# EAGLE library part LINEAR_TECHNOLOGY_LTC6803HG-4#PBF (library Upverter Library)
LT-LTC6803-4-G-44
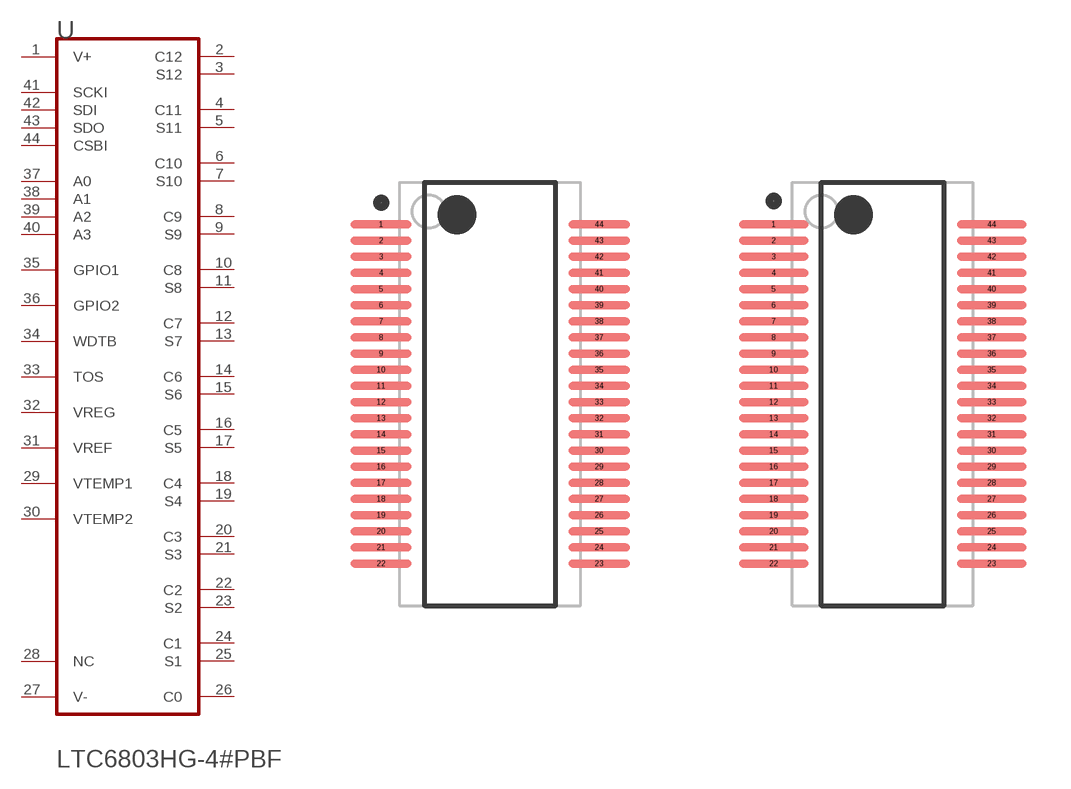
[diagram p0: symbol with the pads of LINEAR_TECHNOLOGY_LTC6803HG-4#PBF_0; footprints LINEAR_TECHNOLOGY_LTC6803HG-4#PBF_0, LINEAR_TECHNOLOGY_LTC6803HG-4#PBF_1]

Designator prefix U

## LINEAR_TECHNOLOGY_LTC6803HG-4#PBFLINEAR_TECHNOLOGY_LTC6803HG-4#PBF_0_0 (Battery_Chemistry: Li-Ion, Supercapacitors, Multi-Chemistry; Component_Link_1_Description: Manufacturer URL; Component_Link_1_URL: http://www.linear.com/; Component_Link_3_Description: Package Specification; Component_Link_3_URL: http://cds.linear.com/docs/en/packaging/SSOP_44_05-08-1754.pdf; Datasheet_Version: Rev. A; MF: Linear Technology; MPN: LTC6803HG-4#PBF; Mounting_Technology: Surface Mount; Number_of_Cells: > 1000 V of stacked Li-Ion cells; Package_Description: 44-Pin Plastic SSOP, Body 12.8 x 5.3 mm, Pitch 0.5 mm; Package_Version: Rev. Ã ̃, 06/2010; Type_of_Charger: Battery Stack Monitor; Vin_MaxV: 60; ciiva_ids: 1416646; datasheet: http://cds.linear.com/docs/en/datasheet/680324fa.pdf; footprint_variant_name_0: Level C; footprint_variant_name_1: Level B; footprint_variant_name_2: Level A; import_ts: 1521854382; imported: yes; imported_from: vault; package: G-44; pin_0_0_40_inside_edge: clock; prefix: U; release_date: 1377764895; rohs: Yes; vault_guid: BA7F31F3-B2E0-4312-B550-1E6C11B00551; vault_revision: 890CB210-B5D1-4A20-8471-0AD6F7E52161)  [LINEAR_TECHNOLOGY_LTC6803HG-4#PBF_0]
1  V+  pwr
2  C12  in
3  S12  hiz
4  C11  in
5  S11  hiz
6  C10  in
7  S10  hiz
8  C9  in
9  S9  hiz
10  C8  in
11  S8  hiz
12  C7  in
13  S7  hiz
14  C6  in
15  S6  hiz
16  C5  in
17  S5  hiz
18  C4  in
19  S4  hiz
20  C3  in
21  S3  hiz
22  C2  in
23  S2  hiz
24  C1  in
25  S1  hiz
26  C0  in
27  V-  pwr
28  NC  pas
29  VTEMP1  in
30  VTEMP2  in
31  VREF  out
32  VREG  pwr
33  TOS  in
34  WDTB  oc
35  GPIO1
36  GPIO2
37  A0  in
38  A1  in
39  A2  in
40  A3  in
41  SCKI  in
42  SDI  in
43  SDO  oc
44  CSBI  in

## LINEAR_TECHNOLOGY_LTC6803HG-4#PBFLINEAR_TECHNOLOGY_LTC6803HG-4#PBF_0_1 (Battery_Chemistry: Li-Ion, Supercapacitors, Multi-Chemistry; Component_Link_1_Description: Manufacturer URL; Component_Link_1_URL: http://www.linear.com/; Component_Link_3_Description: Package Specification; Component_Link_3_URL: http://cds.linear.com/docs/en/packaging/SSOP_44_05-08-1754.pdf; Datasheet_Version: Rev. A; MF: Linear Technology; MPN: LTC6803HG-4#PBF; Mounting_Technology: Surface Mount; Number_of_Cells: > 1000 V of stacked Li-Ion cells; Package_Description: 44-Pin Plastic SSOP, Body 12.8 x 5.3 mm, Pitch 0.5 mm; Package_Version: Rev. Ã ̃, 06/2010; Type_of_Charger: Battery Stack Monitor; Vin_MaxV: 60; ciiva_ids: 1416646; datasheet: http://cds.linear.com/docs/en/datasheet/680324fa.pdf; footprint_variant_name_0: Level C; footprint_variant_name_1: Level B; footprint_variant_name_2: Level A; import_ts: 1521854382; imported: yes; imported_from: vault; package: G-44; pin_0_0_40_inside_edge: clock; prefix: U; release_date: 1377764895; rohs: Yes; vault_guid: BA7F31F3-B2E0-4312-B550-1E6C11B00551; vault_revision: 890CB210-B5D1-4A20-8471-0AD6F7E52161)  [LINEAR_TECHNOLOGY_LTC6803HG-4#PBF_1]
Pads as for LINEAR_TECHNOLOGY_LTC6803HG-4#PBF_0

## LINEAR_TECHNOLOGY_LTC6803HG-4#PBFLINEAR_TECHNOLOGY_LTC6803HG-4#PBF_0_2 (Battery_Chemistry: Li-Ion, Supercapacitors, Multi-Chemistry; Component_Link_1_Description: Manufacturer URL; Component_Link_1_URL: http://www.linear.com/; Component_Link_3_Description: Package Specification; Component_Link_3_URL: http://cds.linear.com/docs/en/packaging/SSOP_44_05-08-1754.pdf; Datasheet_Version: Rev. A; MF: Linear Technology; MPN: LTC6803HG-4#PBF; Mounting_Technology: Surface Mount; Number_of_Cells: > 1000 V of stacked Li-Ion cells; Package_Description: 44-Pin Plastic SSOP, Body 12.8 x 5.3 mm, Pitch 0.5 mm; Package_Version: Rev. Ã ̃, 06/2010; Type_of_Charger: Battery Stack Monitor; Vin_MaxV: 60; ciiva_ids: 1416646; datasheet: http://cds.linear.com/docs/en/datasheet/680324fa.pdf; footprint_variant_name_0: Level C; footprint_variant_name_1: Level B; footprint_variant_name_2: Level A; import_ts: 1521854382; imported: yes; imported_from: vault; package: G-44; pin_0_0_40_inside_edge: clock; prefix: U; release_date: 1377764895; rohs: Yes; vault_guid: BA7F31F3-B2E0-4312-B550-1E6C11B00551; vault_revision: 890CB210-B5D1-4A20-8471-0AD6F7E52161)  [LINEAR_TECHNOLOGY_LTC6803HG-4#PBF_2]
Pads as for LINEAR_TECHNOLOGY_LTC6803HG-4#PBF_0

## Footprint LINEAR_TECHNOLOGY_LTC6803HG-4#PBF_0 (pad centres in mm)
LT-LTC6803-4-G-44
smd 1.9 x 0.25: 1 -3.375,5.25; 2 -3.375,4.75; 3 -3.375,4.25; 4 -3.375,3.75; 5 -3.375,3.25; 6 -3.375,2.75; 7 -3.375,2.25; 8 -3.375,1.75; 9 -3.375,1.25; 10 -3.375,0.75; 11 -3.375,0.25; 12 -3.375,-0.25; 13 -3.375,-0.75; 14 -3.375,-1.25; 15 -3.375,-1.75; 16 -3.375,-2.25; 17 -3.375,-2.75; 18 -3.375,-3.25; 19 -3.375,-3.75; 20 -3.375,-4.25; 21 -3.375,-4.75; 22 -3.375,-5.25; 23 3.375,-5.25; 24 3.375,-4.75; 25 3.375,-4.25; 26 3.375,-3.75; 27 3.375,-3.25; 28 3.375,-2.75; 29 3.375,-2.25; 30 3.375,-1.75; 31 3.375,-1.25; 32 3.375,-0.75; 33 3.375,-0.25; 34 3.375,0.25; 35 3.375,0.75; 36 3.375,1.25; 37 3.375,1.75; 38 3.375,2.25; 39 3.375,2.75; 40 3.375,3.25; 41 3.375,3.75; 42 3.375,4.25; 43 3.375,4.75; 44 3.375,5.25

## Footprint LINEAR_TECHNOLOGY_LTC6803HG-4#PBF_1 (pad centres in mm)
LT-LTC6803-4-G-44
smd 2.15 x 0.25: 1 -3.375,5.25; 2 -3.375,4.75; 3 -3.375,4.25; 4 -3.375,3.75; 5 -3.375,3.25; 6 -3.375,2.75; 7 -3.375,2.25; 8 -3.375,1.75; 9 -3.375,1.25; 10 -3.375,0.75; 11 -3.375,0.25; 12 -3.375,-0.25; 13 -3.375,-0.75; 14 -3.375,-1.25; 15 -3.375,-1.75; 16 -3.375,-2.25; 17 -3.375,-2.75; 18 -3.375,-3.25; 19 -3.375,-3.75; 20 -3.375,-4.25; 21 -3.375,-4.75; 22 -3.375,-5.25; 23 3.375,-5.25; 24 3.375,-4.75; 25 3.375,-4.25; 26 3.375,-3.75; 27 3.375,-3.25; 28 3.375,-2.75; 29 3.375,-2.25; 30 3.375,-1.75; 31 3.375,-1.25; 32 3.375,-0.75; 33 3.375,-0.25; 34 3.375,0.25; 35 3.375,0.75; 36 3.375,1.25; 37 3.375,1.75; 38 3.375,2.25; 39 3.375,2.75; 40 3.375,3.25; 41 3.375,3.75; 42 3.375,4.25; 43 3.375,4.75; 44 3.375,5.25

## Footprint LINEAR_TECHNOLOGY_LTC6803HG-4#PBF_2 (pad centres in mm)
LT-LTC6803-4-G-44
smd 2.45 x 0.25: 1 -3.425,5.25; 2 -3.425,4.75; 3 -3.425,4.25; 4 -3.425,3.75; 5 -3.425,3.25; 6 -3.425,2.75; 7 -3.425,2.25; 8 -3.425,1.75; 9 -3.425,1.25; 10 -3.425,0.75; 11 -3.425,0.25; 12 -3.425,-0.25; 13 -3.425,-0.75; 14 -3.425,-1.25; 15 -3.425,-1.75; 16 -3.425,-2.25; 17 -3.425,-2.75; 18 -3.425,-3.25; 19 -3.425,-3.75; 20 -3.425,-4.25; 21 -3.425,-4.75; 22 -3.425,-5.25; 23 3.425,-5.25; 24 3.425,-4.75; 25 3.425,-4.25; 26 3.425,-3.75; 27 3.425,-3.25; 28 3.425,-2.75; 29 3.425,-2.25; 30 3.425,-1.75; 31 3.425,-1.25; 32 3.425,-0.75; 33 3.425,-0.25; 34 3.425,0.25; 35 3.425,0.75; 36 3.425,1.25; 37 3.425,1.75; 38 3.425,2.25; 39 3.425,2.75; 40 3.425,3.25; 41 3.425,3.75; 42 3.425,4.25; 43 3.425,4.75; 44 3.425,5.25